# Altium footprint library hu.PcbLib: 14 footprints
Each footprint in its own frame and in the unit in brackets; x right, y up, seen from the top. Pads: shape width x height; smd on the part's side, far side on the other; paste and mask are expansions set on the pad; w line width, h text height; cw(c..) or ccw(c..) is an arc to the next point about the centre after c.
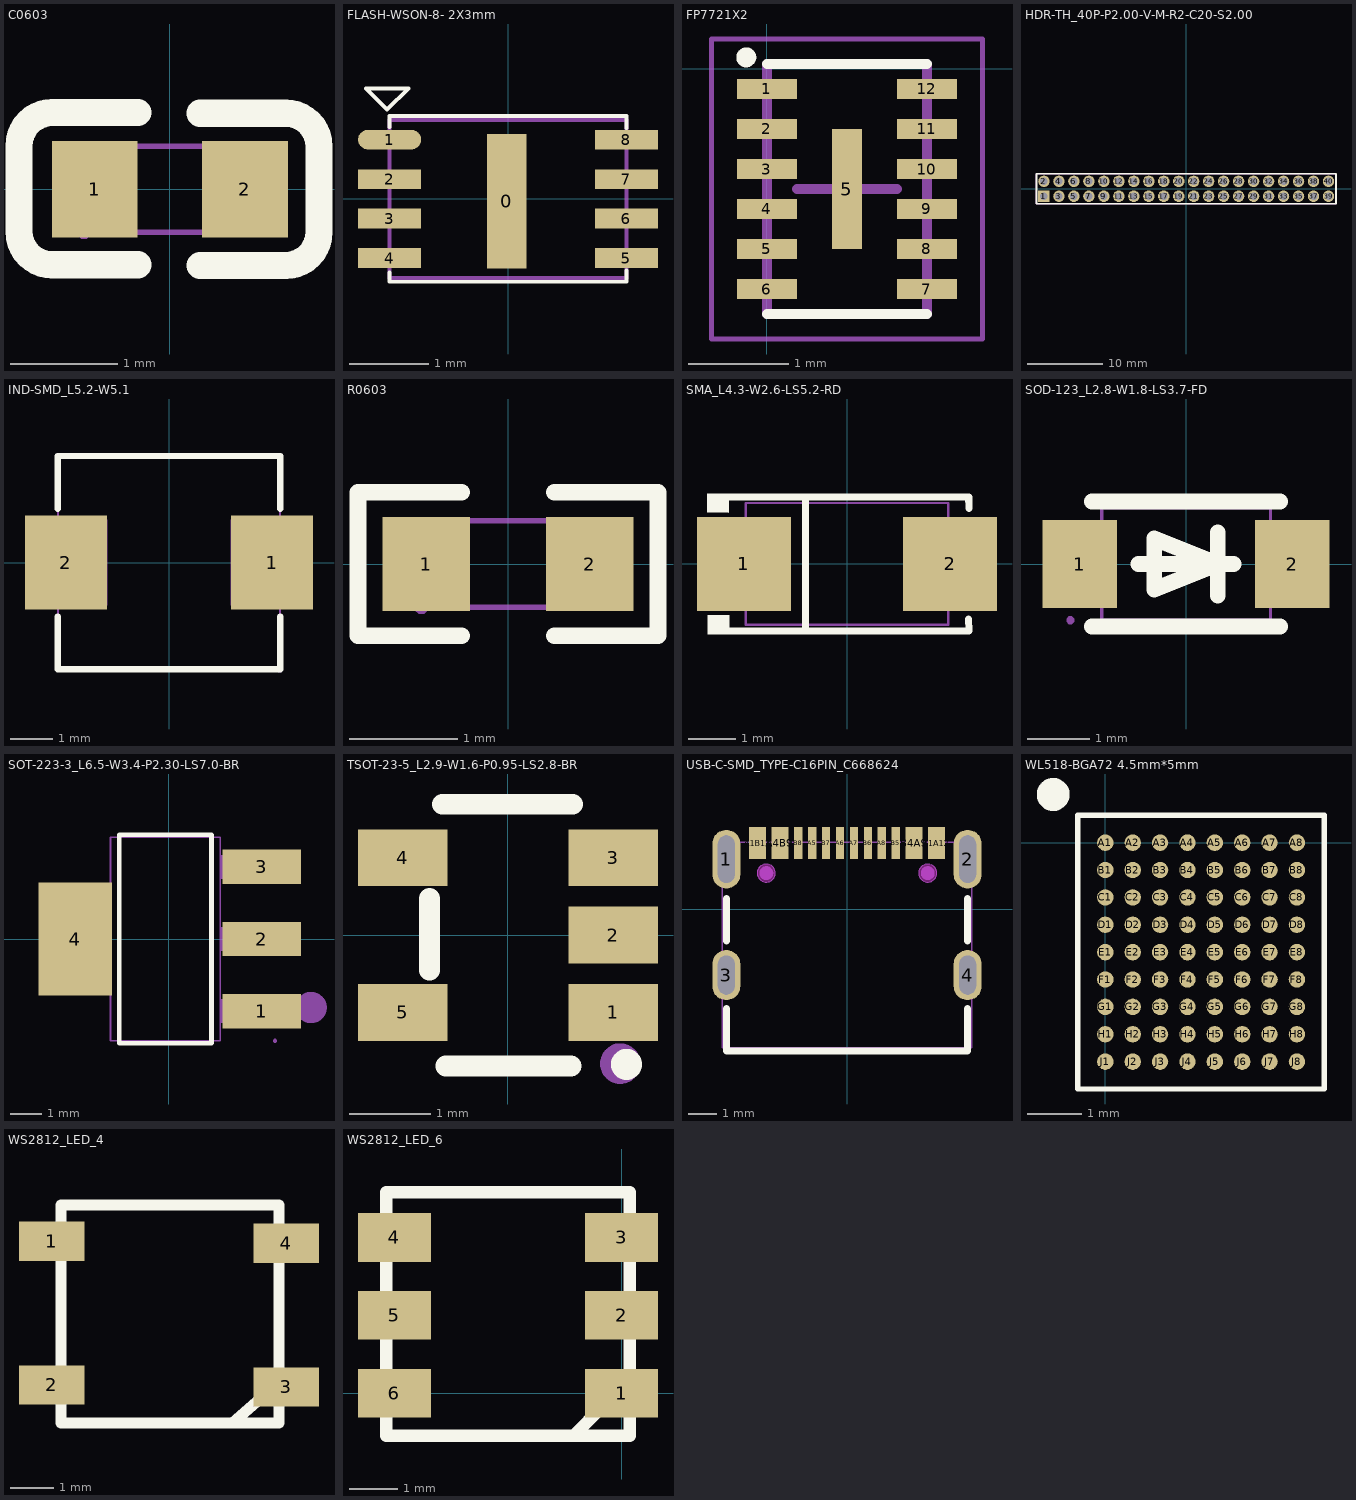
[diagram p0: the footprints below, top view; thin cyan lines are the x and y axes]

## C0603 [mm]
pads (2):
  rect 0.8x0.9 smd mask+0.051: 1(-0.7,0) 2(0.7,0)
Top Overlay:
  lines w0.254: -0.296,-0.704 -1.096,-0.704 cw(c-1.096,-0.394) -1.406,-0.394 -1.405,0.406 cw(c-1.096,0.406) -1.096,0.715 -0.296,0.715 ; 0.28,-0.71 1.08,-0.71 ccw(c1.08,-0.4) 1.39,-0.4 1.39,0.4 ccw(c1.08,0.4) 1.08,0.71 0.28,0.71
Mechanical 15:
  region: -0.74,-0.4 -0.74,-0.375 -0.775,-0.34 -0.825,-0.34 -0.86,-0.375 -0.86,-0.4 -0.86,-0.425 -0.825,-0.46 -0.775,-0.46 -0.74,-0.425
  region: -0.8,-0.4 -0.8,0.4 -0.5,0.4 -0.5,-0.4
  region: 0.8,-0.4 0.8,0.4 0.5,0.4 0.5,-0.4
  lines w0.051: -0.8,-0.4 -0.8,0.4 0.8,0.4 0.8,-0.4 -0.8,-0.4

## FLASH-WSON-8- 2X3mm [mm]
pads (9):
  rect 0.5x1.7 smd: 0(-0.014,-0.031)
  oval 0.8x0.25 smd: 1(-1.5,0.75)
  rect 0.8x0.25 smd: 2(-1.5,0.25) 3(-1.5,-0.25) 4(-1.5,-0.75) 5(1.5,-0.75) 6(1.5,-0.25) 7(1.5,0.25) 8(1.5,0.75)
Top Overlay:
  lines w0.05: -1.5,-0.93 -1.5,-1.05 1.5,-1.05 1.5,-0.91 ; -1.5,0.91 -1.5,1.05 1.5,1.05 1.5,0.9 ; -1.53,1.13 -1.26,1.4 -1.8,1.4 -1.53,1.13 ; -1.53,1.13 -1.53,1.13
Mechanical 13:
  lines w0.05: -1.5,-1 1.5,-1 1.5,1 -1.5,1 -1.5,-1
3D body: height 0.6, standoff 0, extent -1.5,-1 1.5,1

## FP7721X2 [mm] "UTDFN-12(2.4mm x 1.5mm)"
height 0.6
pads (13):
  rect 0.6x0.2 smd: 1(0,-0.2) 2(0,-0.6) 3(0,-1) 4(0,-1.4) 5(0,-1.8) 6(0,-2.2) 7(1.6,-2.2) 8(1.6,-1.8) 9(1.6,-1.4) 10(1.6,-1) 11(1.6,-0.6) 12(1.6,-0.2)
  rect 0.3x1.2 smd: 5(0.8,-1.2)
Top Overlay:
  circle w0.1: c-0.207,0.117 r0.05
  lines w0.1: 0,-2.45 1.6,-2.45 ; 0,0.05 1.6,0.05
Mechanical 13:
  lines w0.1: 0,-2.45 0,0.05 1.6,0.05 1.6,-2.45 0,-2.45
Mechanical 15:
  lines w0.05: -0.555,-2.7 -0.555,0.3 2.155,0.3 2.155,-2.7 -0.555,-2.7
  lines w0.1: 0.3,-1.2 1.3,-1.2 ; 0.8,-1.7 0.8,-0.7
3D body: height 0.6, standoff 0.05, extent 0,-2.45 1.6,0.05

## HDR-TH_40P-P2.00-V-M-R2-C20-S2.00 [mm]
pads (40):
  rect 1.524x1.524 hole 1 mask+0.051: 1(-19,-1)
  round 1.524 hole 1 mask+0.051: 2(-19,1) 3(-17,-1) 4(-17,1) 5(-15,-1) 6(-15,1) 7(-13,-1) 8(-13,1) 9(-11,-1) 10(-11,1) 11(-9,-1) 12(-9,1) 13(-7,-1) 14(-7,1) 15(-5,-1) 16(-5,1) 17(-3,-1) 18(-3,1) 19(-1,-1) 20(-1,1) 21(1,-1) 22(1,1) 23(3,-1) 24(3,1) 25(5,-1) 26(5,1) 27(7,-1) 28(7,1) 29(9,-1) 30(9,1) 31(11,-1) 32(11,1) 33(13,-1) 34(13,1) 35(15,-1) 36(15,1) 37(17,-1) 38(17,1) 39(19,-1) 40(19,1)
Top Overlay:
  lines w0.254: -20,-2 -20,2 20,2 20,-2 -20,-2
Mechanical 15:
  drawing of 45 lines, arcs and shapes, not listed

## IND-SMD_L5.2-W5.1 [mil]
pads (2):
  rect 75.7x86.6 smd mask+2: 1(95,0) 2(-95,0)
Top Overlay:
  lines w5.9: -102.4,-49.6 -102.4,-98.4 102.4,-98.4 102.4,-49.6 ; -102.4,49.6 -102.4,98.4 102.4,98.4 102.4,49.6
Mechanical 15:
  region: 57.1,39.4 102.4,39.4 102.4,-39.4 57.1,-39.4
  region: -102.4,-39.4 -102.4,39.4 -57.1,39.4 -57.1,-39.4
  region: 104.8,-98.4 104.8,-97.41 103.39,-96 101.41,-96 100,-97.41 100,-98.4 100,-99.39 101.41,-100.8 103.39,-100.8 104.8,-99.39
  lines w2: -102.4,-98.4 102.4,-98.4 102.4,98.4 -102.4,98.4 -102.4,-98.4

## R0603 [mm]
pads (2):
  rect 0.806x0.864 smd mask+0.051: 1(-0.753,0) 2(0.753,0)
Top Overlay:
  lines w0.152: -0.426,-0.661 -1.385,-0.661 -1.385,0.661 -0.426,0.661 ; 0.426,-0.661 1.385,-0.661 1.385,0.661 0.426,0.661
Top Paste:
  region: -0.355,0.4 -0.355,0.172 -0.735,0.172 -0.735,-0.158 -0.355,-0.158 -0.355,-0.4 -0.405,-0.45 -1.195,-0.45 -1.245,-0.4 -1.245,0.4 -1.195,0.45 -0.405,0.45
  region: 1.195,0.45 0.395,0.45 0.345,0.4 0.345,0.172 0.715,0.172 0.715,-0.158 0.345,-0.158 0.345,-0.4 0.395,-0.45 1.195,-0.45 1.245,-0.4 1.245,0.4
Mechanical 15:
  region: 0.8,-0.4 0.8,0.4 0.5,0.4 0.5,-0.4
  region: -0.8,-0.4 -0.8,0.4 -0.5,0.4 -0.5,-0.4
  region: -0.74,-0.4 -0.74,-0.375 -0.775,-0.34 -0.825,-0.34 -0.86,-0.375 -0.86,-0.4 -0.86,-0.425 -0.825,-0.46 -0.775,-0.46 -0.74,-0.425
  lines w0.051: -0.8,-0.4 0.8,-0.4 0.8,0.4 -0.8,0.4 -0.8,-0.4

## SMA_L4.3-W2.6-LS5.2-RD [mm]
pads (2):
  rect 2x2 smd mask+0.051: 1(-2.2,0) 2(2.2,0)
Top Overlay:
  region: -2.512,-1.096 -2.513,-1.503 -2.973,-1.498 -2.969,-1.096
  region: -2.52,1.502 -2.521,1.096 -2.981,1.1 -2.977,1.502
  lines w0.152: -2.596,-1.426 2.596,-1.426 ; -2.596,1.426 2.596,1.426 2.603,1.187 ; -0.884,-1.426 -0.884,1.426 ; 2.593,-1.176 2.6,-1.415
Mechanical 6:
  region: 2.014,-0.675 2.014,0.675 1.811,0.675 1.811,-0.675
  region: 2.29,-0.09 2.29,0.112 1.48,0.112 1.48,-0.09
  region: -2.317,-0.101 -2.317,0.101 -1.507,0.101 -1.507,-0.101
Mechanical 15:
  region: -1.48,0.725 -1.48,-0.725 -2.605,-0.725 -2.605,0.725
  region: 2.605,0.725 2.605,-0.725 1.48,-0.725 1.48,0.725
  region: -2.545,-1.3 -2.545,-1.275 -2.58,-1.24 -2.63,-1.24 -2.665,-1.275 -2.665,-1.3 -2.665,-1.325 -2.63,-1.36 -2.58,-1.36 -2.545,-1.325
  lines w0.051: -2.16,-1.3 2.16,-1.3 2.16,1.3 -2.16,1.3 -2.16,-1.3

## SOD-123_L2.8-W1.8-LS3.7-FD [mm]
pads (2):
  rect 1.199x1.4 smd mask+0.051: 1(-1.699,0) 2(1.699,0)
Top Overlay:
  lines w0.254: -1.501,-1.001 1.501,-1.001 ; -1.501,1.001 1.501,1.001 ; -0.762,0 0.762,0 ; 0.508,-0.508 0.508,0.508 ; -0.508,-0.406 0.508,0 -0.508,0.406 -0.508,-0.406
Mechanical 6:
  region: 1.308,0.142 2.182,0.142 2.182,-0.028 1.308,-0.028 1.308,-0.018
  region: -1.811,-0.378 -1.811,0.498 -1.643,0.498 -1.643,-0.378 -1.651,-0.378
  region: -2.167,0.213 -1.29,0.213 -1.29,0.043 -2.167,0.043 -2.167,0.053
Mechanical 15:
  region: -1.849,0.5 -1.25,0.5 -1.25,-0.5 -1.849,-0.5
  region: 1.25,0.5 1.849,0.5 1.849,-0.5 1.25,-0.5
  region: -1.788,-0.899 -1.788,-0.874 -1.824,-0.838 -1.874,-0.838 -1.91,-0.874 -1.91,-0.899 -1.91,-0.924 -1.874,-0.96 -1.824,-0.96 -1.788,-0.924 -1.788,-0.899
  lines w0.051: -1.349,-0.899 -1.349,0.899 1.351,0.899 1.351,-0.899 -1.349,-0.899

## SOT-223-3_L6.5-W3.4-P2.30-LS7.0-BR [mm]
pads (4):
  rect 2.5x1.1 smd mask+0.051: 1(2.97,-2.3) 2(2.97,0) 3(2.97,2.3)
  rect 2.34x3.6 smd mask+0.051: 4(-2.97,0)
Top Overlay:
  lines w0.152: -1.571,-3.326 1.371,-3.326 1.371,3.326 -1.571,3.326 -1.571,-3.326
Mechanical 6:
  circle w0.5: c4.552,-2.188 r0.25
Mechanical 15:
  region: -3.6,-1.5 -3.6,1.5 -2.85,1.5 -2.85,-1.5
  region: -2.86,-1.5 -2.86,1.5 -1.84,1.5 -1.84,-1.5
  region: 2.65,-2.675 2.65,-1.925 3.4,-1.925 3.4,-2.675
  region: 1.64,-2.675 1.64,-1.925 2.66,-1.925 2.66,-2.675
  region: 2.65,-0.375 2.65,0.375 3.4,0.375 3.4,-0.375
  region: 1.64,-0.375 1.64,0.375 2.66,0.375 2.66,-0.375
  region: 2.65,1.925 2.65,2.675 3.4,2.675 3.4,1.925
  region: 1.64,1.925 1.64,2.675 2.66,2.675 2.66,1.925
  region: 3.46,-3.25 3.46,-3.225 3.425,-3.19 3.375,-3.19 3.34,-3.225 3.34,-3.25 3.34,-3.275 3.375,-3.31 3.425,-3.31 3.46,-3.275 3.46,-3.25
  lines w0.051: -1.85,-3.25 1.65,-3.25 1.65,3.25 -1.85,3.25 -1.85,-3.25

## TSOT-23-5_L2.9-W1.6-P0.95-LS2.8-BR [mm]
pads (5):
  rect 1.1x0.7 smd mask+0.102: 1(1.294,-0.951) 2(1.294,-0.001) 3(1.294,0.951) 4(-1.294,0.951) 5(-1.294,-0.949)
Top Overlay:
  circle w0.254: c1.456,-1.589 r0.064
  lines w0.254: -0.966,-0.433 -0.966,0.451 ; -0.806,1.609 0.794,1.609 ; -0.766,-1.609 0.774,-1.609
Mechanical 15:
  circle w0.25: c1.38,-1.58 r0.125

## USB-C-SMD_TYPE-C16PIN_C668624 [mm]
pads (16):
  oval 1x2.1 hole 0.6 slot 1.7 at 90 deg mask+0.051: 1(-4.32,1.787) 2(4.32,1.787)
  oval 1x1.8 hole 0.6 slot 1.4 at 90 deg mask+0.051: 3(-4.32,-2.362) 4(4.32,-2.362)
  rect 0.6x1.15 smd mask+0.051: A1B12(-3.2,2.362) A4B9(-2.4,2.362) B1A12(3.2,2.362) B4A9(2.4,2.362)
  rect 0.3x1.15 smd mask+0.051: A5(-1.25,2.362) A6(-0.25,2.362) A7(0.25,2.362) A8(1.25,2.362) B5(1.75,2.362) B6(0.75,2.362) B7(-0.75,2.362) B8(-1.75,2.362)
Top Overlay:
  lines w0.254: -4.318,-3.556 -4.318,-5.08 4.318,-5.08 4.318,-3.556 ; -4.318,-1.143 -4.318,0.381 ; 4.318,-1.143 4.318,0.381
Top Paste:
  drawing of 16 lines, arcs and shapes, not listed
Keep-Out Layer:
  board cut-out: -2.565,1.288 -2.565,1.352 -2.614,1.472 -2.706,1.563 -2.825,1.613 -2.955,1.613 -3.074,1.563 -3.166,1.472 -3.215,1.352 -3.215,1.288 -3.215,1.223 -3.166,1.103 -3.074,1.012 -2.955,0.963 -2.825,0.963 -2.706,1.012 -2.614,1.103 -2.565,1.223 -2.565,1.288
  board cut-out: 3.215,1.288 3.215,1.352 3.166,1.472 3.074,1.563 2.955,1.613 2.825,1.613 2.706,1.563 2.614,1.472 2.565,1.352 2.565,1.288 2.565,1.223 2.614,1.103 2.706,1.012 2.825,0.963 2.955,0.963 3.074,1.012 3.166,1.103 3.215,1.223 3.215,1.288
Mechanical 1:
  circle w0.005: c-2.89,1.288 r0.325
  circle w0.005: c2.89,1.288 r0.325
Mechanical 6:
  circle w0.25: c2.89,1.288 r0.125
  circle w0.25: c-2.89,1.288 r0.125
Mechanical 15:
  region: -4.47,2.487 -4.17,2.487 -4.17,1.087 -4.47,1.087
  region: 4.17,2.487 4.47,2.487 4.47,1.087 4.17,1.087
  region: -4.47,-1.912 -4.17,-1.912 -4.17,-2.812 -4.47,-2.812
  region: 4.17,-1.912 4.47,-1.912 4.47,-2.812 4.17,-2.812
  region: -3.45,2.692 -2.95,2.692 -2.95,2.092 -3.45,2.092
  region: -2.65,2.692 -2.15,2.692 -2.15,2.092 -2.65,2.092
  region: 2.15,2.692 2.65,2.692 2.65,2.092 2.15,2.092
  region: 2.95,2.692 3.45,2.692 3.45,2.092 2.95,2.092
  region: 1.625,2.692 1.875,2.692 1.875,2.092 1.625,2.092
  region: 1.125,2.692 1.375,2.692 1.375,2.092 1.125,2.092
  region: 0.625,2.692 0.875,2.692 0.875,2.092 0.625,2.092
  region: 0.125,2.692 0.375,2.692 0.375,2.092 0.125,2.092
  region: -0.375,2.692 -0.125,2.692 -0.125,2.092 -0.375,2.092
  region: -0.875,2.692 -0.625,2.692 -0.625,2.092 -0.875,2.092
  region: -1.375,2.692 -1.125,2.692 -1.125,2.092 -1.375,2.092
  region: -1.875,2.692 -1.625,2.692 -1.625,2.092 -1.875,2.092
  region: -4.41,2.692 -4.41,2.717 -4.445,2.752 -4.495,2.752 -4.53,2.717 -4.53,2.692 -4.53,2.668 -4.495,2.632 -4.445,2.632 -4.41,2.668 -4.41,2.692
  lines w0.051: -4.47,-4.96 4.47,-4.96 4.47,2.39 -4.47,2.39 -4.47,-4.96

## WL518-BGA72 4.5mm*5mm [mm]
pads (72):
  round 0.3 smd: A1(0,0) A2(0.5,0) A3(1,0) A4(1.5,0) A5(2,0) A6(2.5,0) A7(3,0) A8(3.5,0) B1(0,-0.5) B2(0.5,-0.5) B3(1,-0.5) B4(1.5,-0.5) B5(2,-0.5) B6(2.5,-0.5) B7(3,-0.5) B8(3.5,-0.5) C1(0,-1) C2(0.5,-1) C3(1,-1) C4(1.5,-1) C5(2,-1) C6(2.5,-1) C7(3,-1) C8(3.5,-1) D1(0,-1.5) D2(0.5,-1.5) D3(1,-1.5) D4(1.5,-1.5) D5(2,-1.5) D6(2.5,-1.5) D7(3,-1.5) D8(3.5,-1.5) E1(0,-2) E2(0.5,-2) E3(1,-2) E4(1.5,-2) E5(2,-2) E6(2.5,-2) E7(3,-2) E8(3.5,-2) F1(0,-2.5) F2(0.5,-2.5) F3(1,-2.5) F4(1.5,-2.5) F5(2,-2.5) F6(2.5,-2.5) F7(3,-2.5) F8(3.5,-2.5) G1(0,-3) G2(0.5,-3) G3(1,-3) G4(1.5,-3) G5(2,-3) G6(2.5,-3) G7(3,-3) G8(3.5,-3) H1(0,-3.5) H2(0.5,-3.5) H3(1,-3.5) H4(1.5,-3.5) H5(2,-3.5) H6(2.5,-3.5) H7(3,-3.5) H8(3.5,-3.5) J1(0,-4) J2(0.5,-4) J3(1,-4) J4(1.5,-4) J5(2,-4) J6(2.5,-4) J7(3,-4) J8(3.5,-4)
Top Overlay:
  circle w0.4: c-0.953,0.88 r0.1
  lines w0.1: -0.5,-4.5 4,-4.5 4,0.5 -0.5,0.5 -0.5,-4.5

## WS2812_LED_4 [mm]
pads (4):
  rect 1.5x0.9 smd: 1(-42.126,-71.52) 2(-42.126,-74.82) 3(-36.741,-74.866) 4(-36.741,-71.566)
Top Overlay:
  lines w0.254: -37.973,-75.692 -36.957,-74.803 ; -41.91,-75.692 -36.91,-75.692 -36.91,-70.692 -41.91,-70.692 -41.91,-75.692

## WS2812_LED_6 [mm]
pads (6):
  rect 1.5x1 smd: 1(0,0) 2(0,1.6) 3(0,3.2) 4(-4.668,3.2) 5(-4.668,1.6) 6(-4.668,0)
Top Overlay:
  lines w0.254: -0.955,-0.851 0.127,0.254 ; -4.834,-0.874 0.166,-0.874 0.166,4.126 -4.834,4.126 -4.834,-0.874